# EAGLE library part PSENSE (library 445-eagle-lib)
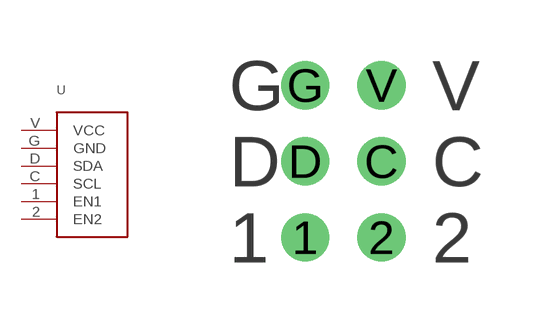
[diagram p7: symbol with the pads of PSENSE; footprint PSENSE]

Designator prefix -

## PSENSE  [PSENSE]
1  EN1
2  EN2
C  SCL
D  SDA
G  GND
V  VCC

## Footprint PSENSE (pad centres in mm)
drill 0.7: 1 0,-3.81; 2 1.905,-3.81; C 1.905,-1.905; D 0,-1.905; G 0,0; V 1.905,0